# EAGLE library part PCF2131TFY (library PCF2131TFY)
Real Time Clock Accurate RTC with integrated quartz crystal for industrial applications Source: Datasheet <https://www.nxp.com/docs/en/data-sheet/PCF2131DS.pdf>
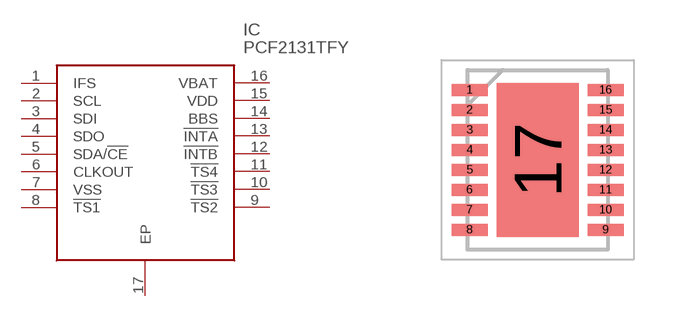
[diagram p0: symbol with the pads of SON50P350X450X150-17N; footprint SON50P350X450X150-17N]

Designator prefix IC

## PCF2131TFY (Description: Real Time Clock Accurate RTC with integrated quartz crystal for industrial applications; Height: 1.5mm; Manufacturer_Name: NXP; Manufacturer_Part_Number: PCF2131TFY; Mouser_Part_Number: 771-PCF2131TFY; Mouser_Price-Stock: https://www.mouser.co.uk/ProductDetail/NXP-Semiconductors/PCF2131TFY?qs=QNEnbhJQKvbnVL67jlWDOg%3D%3D)  [SON50P350X450X150-17N]
1  IFS
2  SCL
3  SDI
4  SDO
5  SDA/!CE
6  CLKOUT
7  VSS
8  !TS1
9  !TS2
10  !TS3
11  !TS4
12  !INTB
13  !INTA
14  BBS
15  VDD
16  VBAT
17  EP

## Footprint SON50P350X450X150-17N (pad centres in mm)
SOT1992-1 (HLSON16)
smd 0.9 x 0.3: 1 -1.7,1.75; 2 -1.7,1.25; 3 -1.7,0.75; 4 -1.7,0.25; 5 -1.7,-0.25; 6 -1.7,-0.75; 7 -1.7,-1.25; 8 -1.7,-1.75; 9 1.7,-1.75; 10 1.7,-1.25; 11 1.7,-0.75; 12 1.7,-0.25; 13 1.7,0.25; 14 1.7,0.75; 15 1.7,1.25; 16 1.7,1.75
smd 2.05 x 3.85: 17 0,0